# Altium footprint library XT60.PcbLib: 1 footprints
Each footprint in its own frame and in the unit in brackets; x right, y up, seen from the top. Pads: shape width x height; smd on the part's side, far side on the other; paste and mask are expansions set on the pad; w line width, h text height; cw(c..) or ccw(c..) is an arc to the next point about the centre after c.
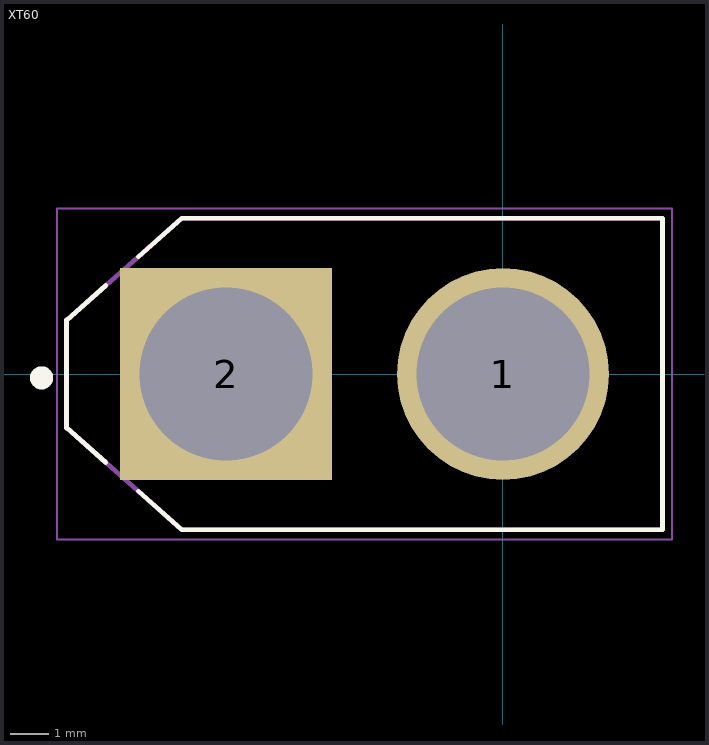
[diagram p0: the footprint, top view; thin cyan lines are the x and y axes]

## XT60 [mm]
pads (2):
  round 5.516 hole 4.5: 1(0,0)
  rect 5.516x5.516 hole 4.5: 2(-7.2,0)
Top Overlay:
  circle w0.3: c-12,-0.1 r0.15
  lines w0.127: -10.33,-2.3 -11.35,-1.4 -11.35,1.4 -10.33,2.3 ; -9.48,-3.05 -8.35,-4.05 4.15,-4.05 4.15,4.05 -8.35,4.05 -9.48,3.05
Mechanical 13:
  lines w0.127: -11.35,-1.4 -11.35,1.4 -8.35,4.05 4.15,4.05 4.15,-4.05 -8.35,-4.05 -11.35,-1.4
Mechanical 15:
  lines w0.05: -11.6,-4.3 -11.6,4.3 4.4,4.3 4.4,-4.3 -11.6,-4.3
3D body "XT60-M--3DModel-STEP-56544.STEP": height 16, standoff -4.5, extent -11.35,-4.05 4.15,4.05